# EAGLE library part HX711 (library ICs)
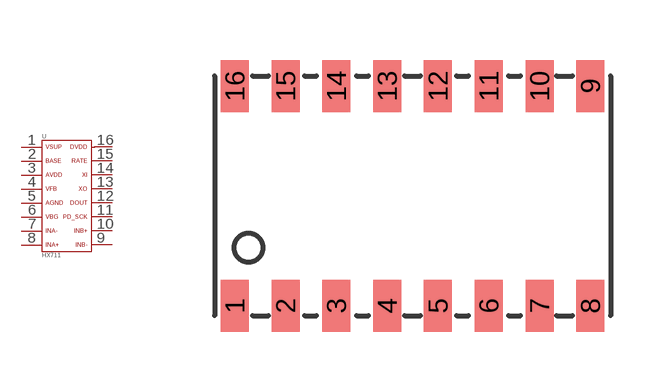
[diagram p0: symbol with the pads of SOP-16; footprint SOP-16]

Designator prefix U

## HX711  [SOP-16]
1  1  pas
2  2  pas
3  3  pas
4  4  pas
5  5  pas
6  6  pas
7  7  pas
8  8  pas
9  9  pas
10  10  pas
11  11  pas
12  12  pas
13  13  pas
14  14  pas
15  15  pas
16  16  pas

## Footprint SOP-16 (pad centres in mm)
smd 0.7 x 1.3: 1 -4.445,-2.75; 2 -3.175,-2.75; 3 -1.905,-2.75; 4 -0.635,-2.75; 5 0.635,-2.75; 6 1.905,-2.75; 7 3.175,-2.75; 8 4.445,-2.75; 9 4.445,2.75; 10 3.175,2.75; 11 1.905,2.75; 12 0.635,2.75; 13 -0.635,2.75; 14 -1.905,2.75; 15 -3.175,2.75; 16 -4.445,2.75